# EAGLE library part DRV8313RHHR (library DRV8313HHR)
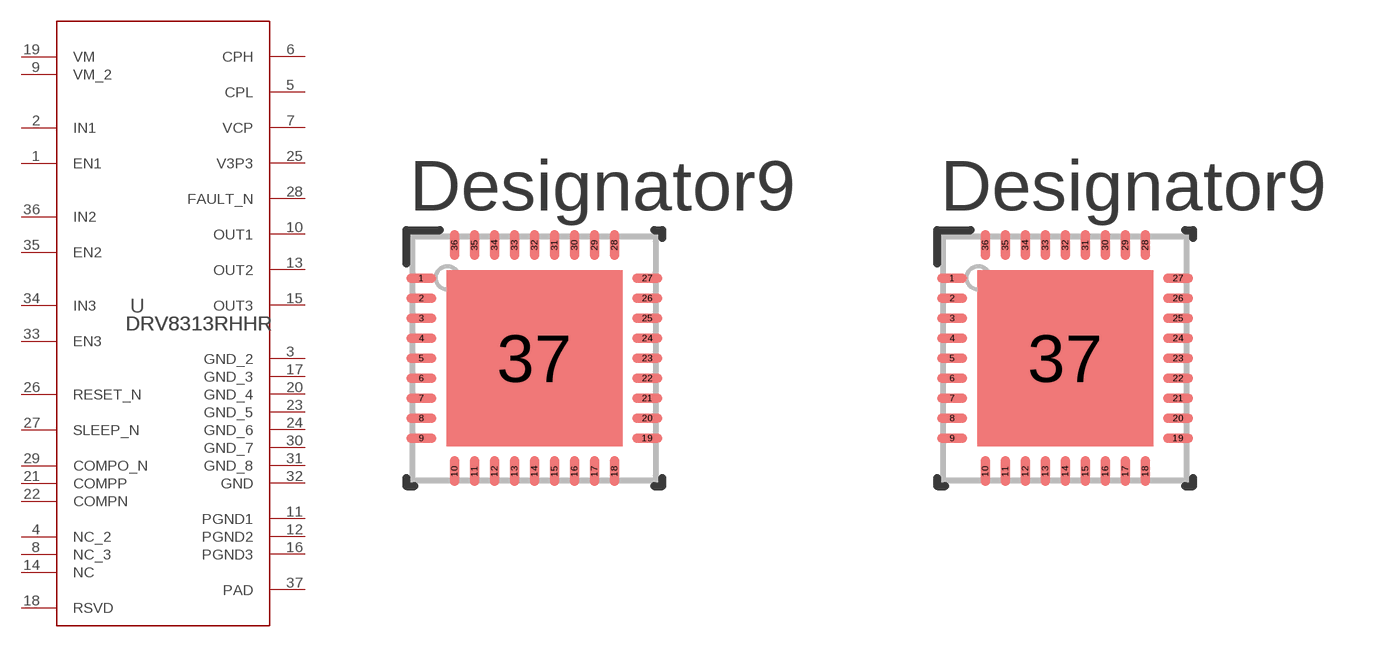
[diagram p0: symbol with the pads of RHH0036C; footprints RHH0036C, RHH0036C_NV]

Designator prefix U

## DRV8313RHHR (MANUFACTURER: Texas Instruments; PARTNUMBER: DRV8313RHHR; REFDES: RefDes; TYPE: TYPE; VALUE: Value)  [RHH0036C]
1  EN1  in
2  IN1  in
3  GND_2  pwr
4  NC_2  pas
5  CPL
6  CPH
7  VCP
8  NC_3  pas
9  VM_2  pwr
10  OUT1  out
11  PGND1  pwr
12  PGND2  pwr
13  OUT2  out
14  NC  pas
15  OUT3  out
16  PGND3  pwr
17  GND_3  pwr
18  RSVD  pas
19  VM  pwr
20  GND_4  pwr
21  COMPP  in
22  COMPN  in
23  GND_5  pwr
24  GND_6  pwr
25  V3P3  pwr
26  RESET_N  in
27  SLEEP_N  in
28  FAULT_N  oc
29  COMPO_N  oc
30  GND_7  pwr
31  GND_8  pwr
32  GND  pwr
33  EN3  in
34  IN3  in
35  EN2  in
36  IN2  in
37  PAD  pwr

## DRV8313RHHRRHH0036C_NV (MANUFACTURER: Texas Instruments; PARTNUMBER: DRV8313RHHR; REFDES: RefDes; TYPE: TYPE; VALUE: Value)  [RHH0036C_NV]
Pads as for RHH0036C

## Footprint RHH0036C (pad centres in mm)
smd 0.75 x 0.24: 1 -2.825,2; 2 -2.825,1.5; 3 -2.825,1; 4 -2.825,0.5; 5 -2.825,0; 6 -2.825,-0.5; 7 -2.825,-1; 8 -2.825,-1.5; 9 -2.825,-2; 19 2.825,-2; 20 2.825,-1.5; 21 2.825,-1; 22 2.825,-0.5; 23 2.825,0; 24 2.825,0.5; 25 2.825,1; 26 2.825,1.5; 27 2.825,2
smd 0.24 x 0.75: 10 -2,-2.825; 11 -1.5,-2.825; 12 -1,-2.825; 13 -0.5,-2.825; 14 0,-2.825; 15 0.5,-2.825; 16 1,-2.825; 17 1.5,-2.825; 18 2,-2.825; 28 2,2.825; 29 1.5,2.825; 30 1,2.825; 31 0.5,2.825; 32 0,2.825; 33 -0.5,2.825; 34 -1,2.825; 35 -1.5,2.825; 36 -2,2.825
smd 4.4 x 4.4: 37 0,0

## Footprint RHH0036C_NV (pad centres in mm)
smd 0.75 x 0.24: 1 -2.825,2; 2 -2.825,1.5; 3 -2.825,1; 4 -2.825,0.5; 5 -2.825,0; 6 -2.825,-0.5; 7 -2.825,-1; 8 -2.825,-1.5; 9 -2.825,-2; 19 2.825,-2; 20 2.825,-1.5; 21 2.825,-1; 22 2.825,-0.5; 23 2.825,0; 24 2.825,0.5; 25 2.825,1; 26 2.825,1.5; 27 2.825,2
smd 0.24 x 0.75: 10 -2,-2.825; 11 -1.5,-2.825; 12 -1,-2.825; 13 -0.5,-2.825; 14 0,-2.825; 15 0.5,-2.825; 16 1,-2.825; 17 1.5,-2.825; 18 2,-2.825; 28 2,2.825; 29 1.5,2.825; 30 1,2.825; 31 0.5,2.825; 32 0,2.825; 33 -0.5,2.825; 34 -1,2.825; 35 -1.5,2.825; 36 -2,2.825
smd 4.4 x 4.4: 37 0,0